# EAGLE library part IV-3T (library VFD)
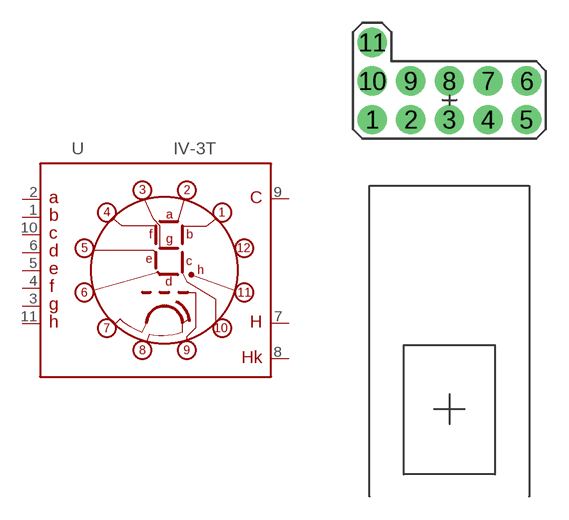
[diagram p2: symbol with the pads of IV-3A_VIXC; footprint IV-3A_VIXC]

Designator prefix -

## IV-3T_VIXC  [IV-3A_VIXC]
1  B
2  A
3  G
4  F
5  E
6  D
7  H1
8  H2K
9  S
10  C
11  H

## Footprint IV-3A_VIXC (pad centres in mm)
drill 0.8 pad 1.93: 1 -5.08,19.05; 2 -2.54,19.05; 3 0,19.05; 4 2.54,19.05; 5 5.08,19.05; 6 5.08,21.59; 7 2.54,21.59; 8 0,21.59; 9 -2.54,21.59; 10 -5.08,21.59; 11 -5.08,24.13